# Altium footprint library PCB - DIODES - LED - Addr RGB.PcbLib: 1 footprints
Each footprint in its own frame and in the unit in brackets; x right, y up, seen from the top. Pads: shape width x height; smd on the part's side, far side on the other; paste and mask are expansions set on the pad; w line width, h text height; cw(c..) or ccw(c..) is an arc to the next point about the centre after c.
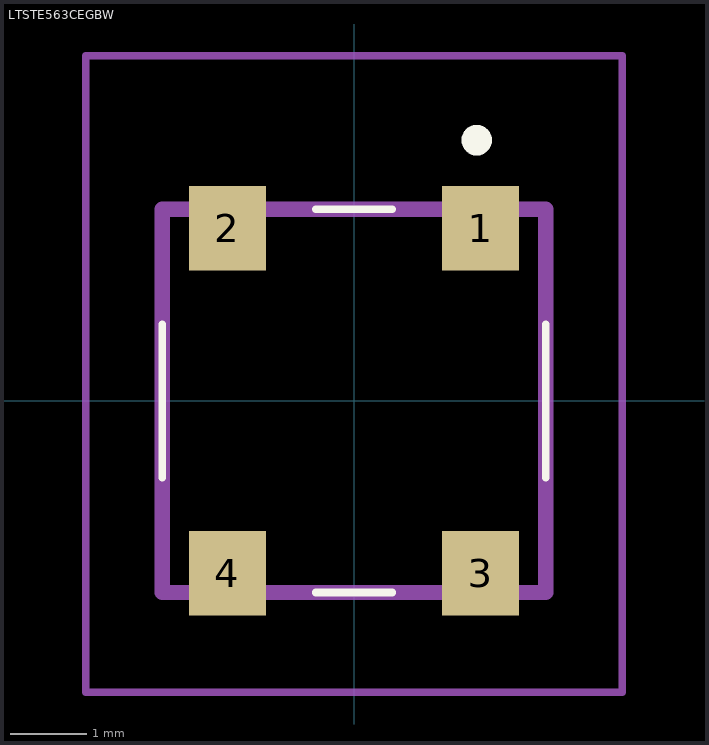
[diagram p0: the footprint, top view; thin cyan lines are the x and y axes]

## LTSTE563CEGBW [mm]
pads (4):
  rect 1x1.1 smd: 1(1.65,2.25) 2(-1.65,2.25) 3(1.65,-2.25) 4(-1.65,-2.25)
Top Overlay:
  lines w0.1: -2.5,-1 -2.5,1 ; -0.5,-2.5 0.5,-2.5 ; -0.5,2.5 0.5,2.5 ; 2.5,-1 2.5,1
  lines w0.2: 1.5,3.4 cw(c1.6,3.4) 1.7,3.4 cw(c1.6,3.4) 1.5,3.4
Mechanical 13:
  lines w0.2: -2.5,-2.5 -2.5,2.5 2.5,2.5 2.5,-2.5 -2.5,-2.5
Mechanical 15:
  lines w0.1: -3.5,-3.8 -3.5,4.5 3.5,4.5 3.5,-3.8 -3.5,-3.8
3D body "LTST-E563CEGBW.stp": height 1.72, standoff 0, extent -2.5,-2.5 2.5,2.5